# EAGLE library part S25FS512SAGNFV010-ND (library DogSensing)
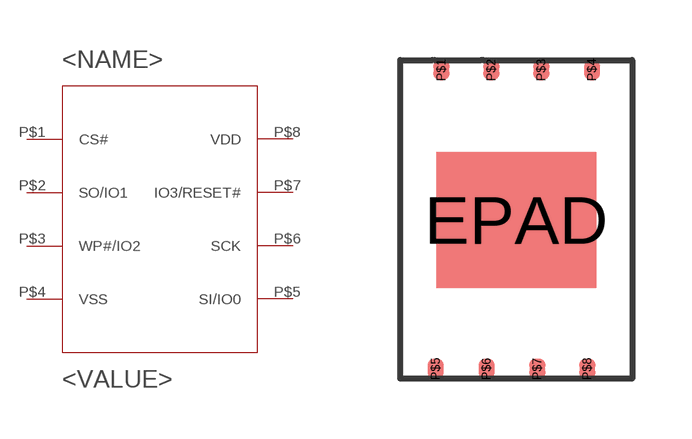
[diagram p1: symbol with the pads of S25FS512SAGNFV010-ND; footprint S25FS512SAGNFV010-ND]

Designator prefix -

## S25FS512SAGNFV010-ND  [S25FS512SAGNFV010-ND]
P$1  CS#
P$2  SO/IO1
P$3  WP#/IO2
P$4  VSS
P$5  SI/IO0
P$6  SCK
P$7  IO3/RESET#
P$8  VDD

## Footprint S25FS512SAGNFV010-ND (pad centres in mm)
smd 4 x 3.4: EPAD 0.62,0.06
smd 0.4 x 0.5: P$1 -1.25,3.81; P$2 0,3.81; P$3 1.25,3.81; P$4 2.52,3.81; P$5 -1.39,-3.67; P$6 -0.12,-3.67; P$7 1.15,-3.67; P$8 2.4,-3.67